# EAGLE library part BQ76930 (library custom-devices)
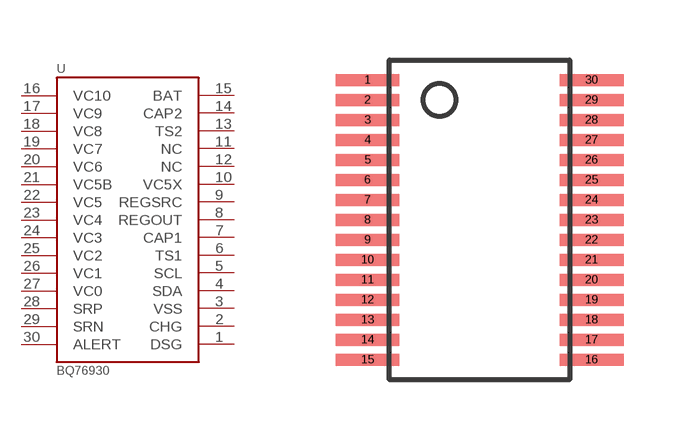
[diagram p37: symbol with the pads of TSSOP30; footprint TSSOP30]

Designator prefix U

## BQ76930  [TSSOP30]
1  DSG
2  CHG
3  VSS
4  SDA
5  SCL
6  TS1
7  CAP1
8  REGOUT
9  REGSRC
10  VC5X
11  NC
12  NC
13  TS2
14  CAP2
15  BAT
16  VC10
17  VC9
18  VC8
19  VC7
20  VC6
21  VC5B
22  VC5
23  VC4
24  VC3
25  VC2
26  VC1
27  VC0
28  SRP
29  SRN
30  ALERT

## Footprint TSSOP30 (pad centres in mm)
smd 1.6 x 0.3: 1 -2.8,3.5; 2 -2.8,3; 3 -2.8,2.5; 4 -2.8,2; 5 -2.8,1.5; 6 -2.8,1; 7 -2.8,0.5; 8 -2.8,0; 9 -2.8,-0.5; 10 -2.8,-1; 11 -2.8,-1.5; 12 -2.8,-2; 13 -2.8,-2.5; 14 -2.8,-3; 15 -2.8,-3.5; 16 2.8,-3.5; 17 2.8,-3; 18 2.8,-2.5; 19 2.8,-2; 20 2.8,-1.5; 21 2.8,-1; 22 2.8,-0.5; 23 2.8,0; 24 2.8,0.5; 25 2.8,1; 26 2.8,1.5; 27 2.8,2; 28 2.8,2.5; 29 2.8,3; 30 2.8,3.5